# Altium footprint library Wurth.PcbLib: 5 footprints
Each footprint in its own frame and in the unit in brackets; x right, y up, seen from the top. Pads: shape width x height; smd on the part's side, far side on the other; paste and mask are expansions set on the pad; w line width, h text height; cw(c..) or ccw(c..) is an arc to the next point about the centre after c.
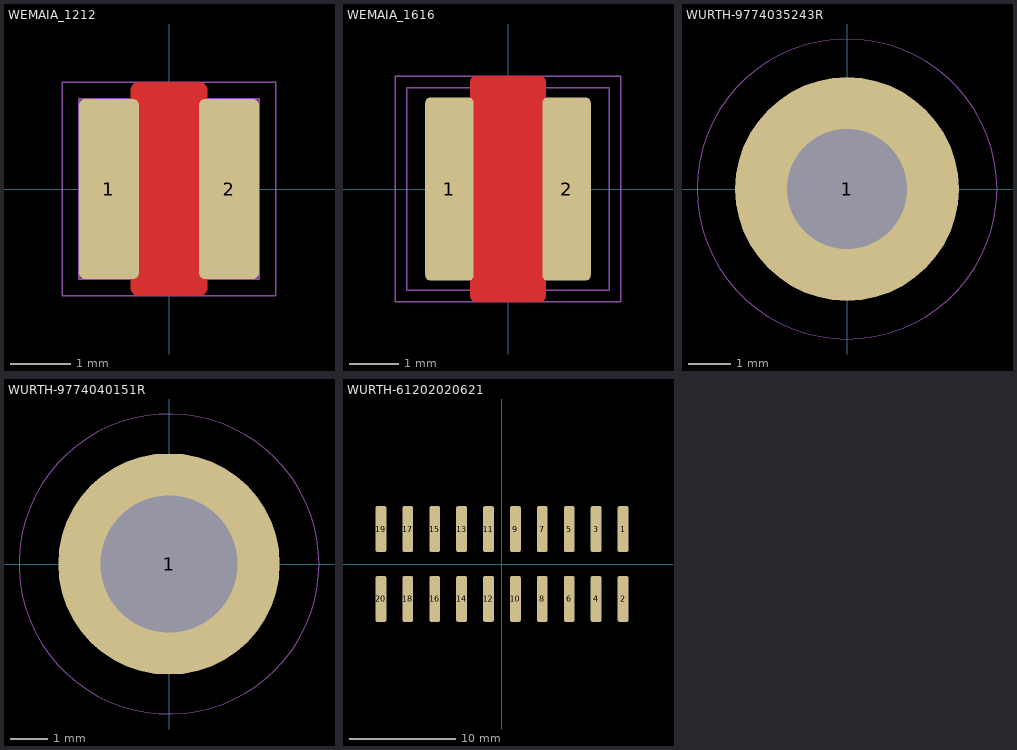
[diagram p0: the footprints below, top view; thin cyan lines are the x and y axes]

## WEMAIA_1212 [mm]
pads (2):
  rrect20% 1x3 smd paste-0.127 mask+0.051: 1(-1,0) 2(1,0)
Top Layer:
  pour cut-out: -0.635,1.651 -0.635,1.676 -0.616,1.723 -0.58,1.759 -0.533,1.778 -0.508,1.778 0.508,1.778 0.533,1.778 0.58,1.759 0.616,1.723 0.635,1.676 0.635,1.651 0.635,-1.651 0.635,-1.676 0.616,-1.723 0.58,-1.759 0.533,-1.778 0.508,-1.778 -0.508,-1.778 -0.533,-1.778 -0.58,-1.759 -0.616,-1.723 -0.635,-1.676 -0.635,-1.651
Top Component Outline:
  lines w0.025: -1.778,-1.778 1.778,-1.778 1.778,1.778 -1.778,1.778 -1.778,-1.778
Top 3D Body (Mech16):
  lines w0.025: -1.5,-1.5 1.5,-1.5 1.5,1.5 -1.5,1.5 -1.5,-1.5
3D body: height 1.5, standoff 0, extent -1.5,-1.5 1.5,1.5

## WEMAIA_1616 [mm]
pads (2):
  rrect20% 0.98x3.7 smd paste-0.127 mask+0.051: 1(-1.185,0) 2(1.185,0)
Top Layer:
  pour cut-out: -0.762,2.159 -0.762,2.184 -0.743,2.231 -0.707,2.267 -0.66,2.286 -0.635,2.286 0.635,2.286 0.66,2.286 0.707,2.267 0.743,2.231 0.762,2.184 0.762,2.159 0.762,-2.159 0.762,-2.184 0.743,-2.231 0.707,-2.267 0.66,-2.286 0.635,-2.286 -0.635,-2.286 -0.66,-2.286 -0.707,-2.267 -0.743,-2.231 -0.762,-2.184 -0.762,-2.159
Top Component Outline:
  lines w0.025: -2.286,-2.286 2.286,-2.286 2.286,2.286 -2.286,2.286 -2.286,-2.286
Top 3D Body (Mech16):
  lines w0.025: -2.05,-2.05 2.05,-2.05 2.05,2.05 -2.05,2.05 -2.05,-2.05
3D body: height 2.1, standoff 0, extent -2.05,-2.05 2.05,2.05

## WURTH-9774035243R [mm]
pads (1):
  round 5.3 hole 2.85 mask+0.051: 1(0,0)
Top Paste:
  lines w1.016: -1.909,-0.695 ccw(c0,0) -0.695,-1.909 ; -1.909,0.695 cw(c0,0) -0.695,1.909 ; 0.695,-1.909 ccw(c0,0) 1.909,-0.695 ; 0.695,1.909 cw(c0,0) 1.909,0.695
Top Component Outline:
  circle w0.025: c0,0 r3.556
  lines w0.025: -1.016,1.778 -1.016,0 ccw(c0,0) 1.016,0 1.016,1.778
3D body "9774035243R.stp": height 3.52, standoff -1.38, extent -2.175,-2.175 2.175,2.175

## WURTH-9774040151R [mm]
pads (1):
  round 6 hole 3.7 mask+0.051: 1(0,0)
Top Paste:
  lines w1.016: -2.267,-0.825 ccw(c0,0) -0.825,-2.267 ; -2.267,0.825 cw(c0,0) -0.825,2.267 ; 0.825,-2.267 ccw(c0,0) 2.267,-0.825 ; 0.825,2.267 cw(c0,0) 2.267,0.825
Top Component Outline:
  circle w0.025: c0,0 r4.064
3D body "STEP-9774040151R-rev1.stp": height 4, standoff -1.4, extent -2.55,-2.547 2.55,2.547

## WURTH-61202020621 [mil]
pads (20):
  rrect30% 40x170 smd: 1(450,130) 2(450,-130) 3(350,130) 4(350,-130) 5(250,130) 6(250,-130) 7(150,130) 8(150,-130) 9(50,130) 10(50,-130) 11(-50,130) 12(-50,-130) 13(-150,130) 14(-150,-130) 15(-250,130) 16(-250,-130) 17(-350,130) 18(-350,-130) 19(-450,130) 20(-450,-130)
Top Solder:
  region: 530,110 580,140 580,80
3D body "61202020621.stp": height 402, standoff 0.82, extent -650,-187.01 650,187.01